# EAGLE library part IXDD604?* (library IDX_604)
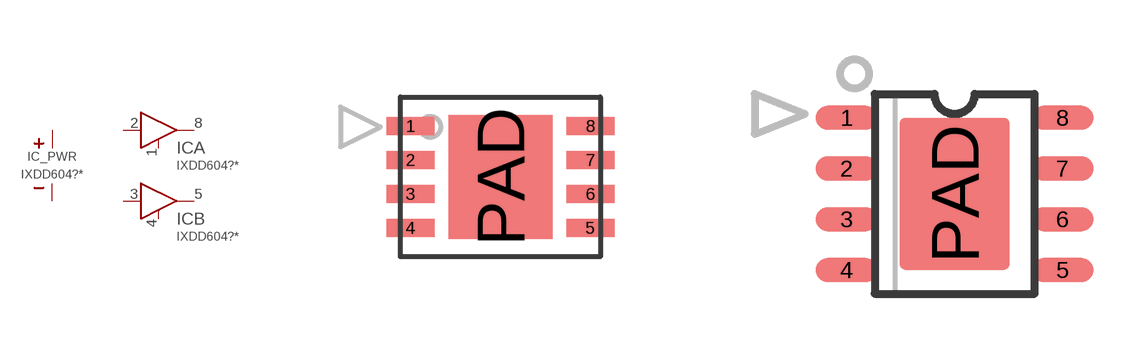
[diagram p0: symbol with the pads of DFN8-5X4-0.95; footprints DFN8-5X4-0.95, SOIC8]

Designator prefix IC; gates _PWR=PWR A=GATE_NINV_EN B=GATE_NINV_EN

## IXDD604D2 (MF: IXYS; MPN: IXDD604D2), IXDD604D2TR (MF: IXYS; MPN: IXDD604D2TR)  [DFN8-5X4-0.95]
1  A:EN  in
2  A:IN  in
3  B:IN  in
4  B:EN  in
5  B:OUT  out
6  _PWR:V+  pwr
7  _PWR:V-  pwr
8  A:OUT  out
PAD  _PWR:V-  pwr

## IXDD604SI, IXDD604SITR  [SOIC8]
1  A:EN  in
2  A:IN  in
3  _PWR:V-  pwr
4  B:IN  in
5  B:OUT  out
6  _PWR:V+  pwr
7  A:OUT  out
8  B:EN  in
PAD  _PWR:V-  pwr

## Footprint DFN8-5X4-0.95 (pad centres in mm)
smd 1.2 x 0.45: 1 -2.25,1.275; 2 -2.25,0.425; 3 -2.25,-0.425; 4 -2.25,-1.275; 5 2.25,-1.275; 6 2.25,-0.425; 7 2.25,0.425; 8 2.25,1.275
smd 2.6 x 3.1: PAD 0,0

## Footprint SOIC8 (pad centres in mm)
smd 1.55 x 0.6: 1 -2.7,1.905; 2 -2.7,0.635; 3 -2.7,-0.635; 4 -2.7,-1.905; 5 2.7,-1.905; 6 2.7,-0.635; 7 2.7,0.635; 8 2.7,1.905
smd 2.75 x 3.8: PAD 0,0